# Altium integrated library MX-53261.IntLib: 6 symbols
Pins are listed as number, name and electrical type; pins without a type are passive.

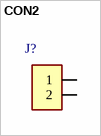
[diagram p0: symbol CON2]

## CON2
designator J?, comment 0532610271  (value not drawn)
ID: 0532610271; PDF: http://www.molex.com/pdm_docs/sd/532610671_sd.pdf; PRICE: 0.46720; BUY_LINK: http://www.digikey.com/product-detail/en/0532610271/WM7620TR-ND/699094
footprint MX-53261-0271
footprint MX-53261-0271
pins: 1, 2


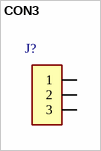
[diagram p1: symbol CON3]

## CON3
designator J?, comment 0532610371  (value not drawn)
ID: 0532610371; PDF: http://www.molex.com/pdm_docs/sd/532610671_sd.pdf; PRICE: 0.56768; BUY_LINK: http://www.digikey.com/product-detail/en/0532610371/WM7621TR-ND/699095
footprint MX-53261-0371
footprint MX-53261-0371
pins: 1, 2, 3


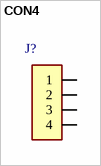
[diagram p2: symbol CON4]

## CON4
designator J?, comment 0532610471  (value not drawn)
ID: 0532610471; PDF: http://www.molex.com/pdm_docs/sd/532610671_sd.pdf; PRICE: 1.24000; BUY_LINK: http://www.digikey.com/product-detail/en/0532610471/WM7622CT-ND/699109
footprint MX-53261-0471
footprint MX-53261-0471
pins: 1, 2, 3, 4


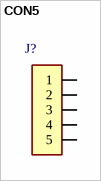
[diagram p3: symbol CON5]

## CON5
designator J?, comment 0532610571  (value not drawn)
ID: 0532610571; PDF: http://www.molex.com/pdm_docs/sd/532610671_sd.pdf; PRICE: 1.54000; BUY_LINK: http://www.digikey.com/product-detail/en/0532610571/WM7623CT-ND/699110
footprint MX-53261-0571
footprint MX-53261-0571
pins: 1, 2, 3, 4, 5


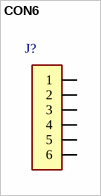
[diagram p4: symbol CON6]

## CON6
designator J?, comment 0532610671  (value not drawn)
ID: 0532610671; PDF: http://www.molex.com/pdm_docs/sd/532610671_sd.pdf; PRICE: 1.65000; BUY_LINK: http://www.digikey.com/product-detail/en/0532610671/WM7624CT-ND/699111
footprint MX-53261-0671
footprint MX-53261-0671
pins: 1, 2, 3, 4, 5, 6


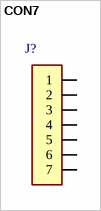
[diagram p5: symbol CON7]

## CON7
designator J?, comment 0532610771  (value not drawn)
ID: 0532610771; PDF: http://www.molex.com/pdm_docs/sd/532610771_sd.pdf; PRICE: 1.58000; BUY_LINK: http://www.digikey.com/product-detail/en/0532610771/WM7625DKR-ND/1846793
footprint MX-53261-0771
footprint MX-53261-0771
pins: 1, 2, 3, 4, 5, 6, 7